# EAGLE library part ADM3202ARUZ (library ScouseTom_New)
Low Power, 3.3 V, RS-232 Line Drivers/Receivers
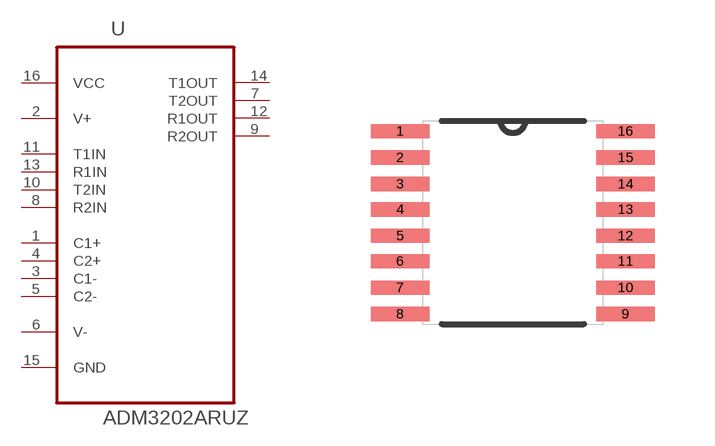
[diagram p1: symbol with the pads of SOP65P640X120-16N; footprint SOP65P640X120-16N]

Designator prefix U

## ADM3202ARUZ (MPN: ADM3202ARUZ; OC_FARNELL: 9425586; OC_NEWARK: 59K2064; PACKAGE: TSSOP-16; SUPPLIER: Analog Devices)  [SOP65P640X120-16N]
1  C1+  in
2  V+  pwr
3  C1-  in
4  C2+  in
5  C2-  in
6  V-  pwr
7  T2OUT  out
8  R2IN  in
9  R2OUT  out
10  T2IN  in
11  T1IN  in
12  R1OUT  out
13  R1IN  in
14  T1OUT  out
15  GND  pas
16  VCC  pwr

## Footprint SOP65P640X120-16N (pad centres in mm)
smd 1.473 x 0.356: 1 -2.819,2.286; 2 -2.819,1.626; 3 -2.819,0.965; 4 -2.819,0.33; 5 -2.819,-0.33; 6 -2.819,-0.965; 7 -2.819,-1.626; 8 -2.819,-2.286; 9 2.819,-2.286; 10 2.819,-1.626; 11 2.819,-0.965; 12 2.819,-0.33; 13 2.819,0.33; 14 2.819,0.965; 15 2.819,1.626; 16 2.819,2.286